# EAGLE library part JTAG_SMALL (library xilinx_xc95XXXxl)
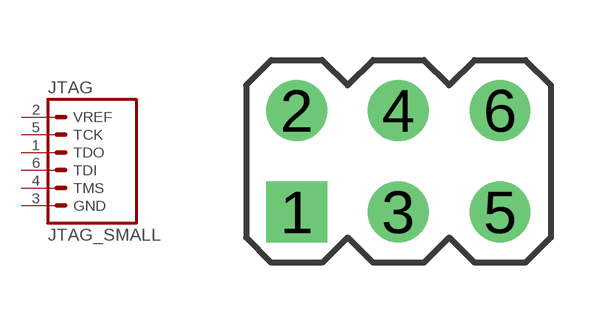
[diagram p7: symbol with the pads of JTAG-6; footprint JTAG-6]

Designator prefix JTAG

## JTAG_SMALL  [JTAG-6]
1  TDO  out
2  VREF  pwr
3  GND  pwr
4  TMS  out
5  TCK  out
6  TDI  in

## Footprint JTAG-6 (pad centres in mm)
PIN HEADER
drill 1.016 square: 1 -5.08,-1.27
drill 1.016: 2 -5.08,1.27; 3 -2.54,-1.27; 4 -2.54,1.27; 5 0,-1.27; 6 0,1.27